# Altium footprint library MICROFOOT4-SPE-Si8469DB.PcbLib: 1 footprints
Each footprint in its own frame and in the unit in brackets; x right, y up, seen from the top. Pads: shape width x height; smd on the part's side, far side on the other; paste and mask are expansions set on the pad; w line width, h text height; cw(c..) or ccw(c..) is an arc to the next point about the centre after c.
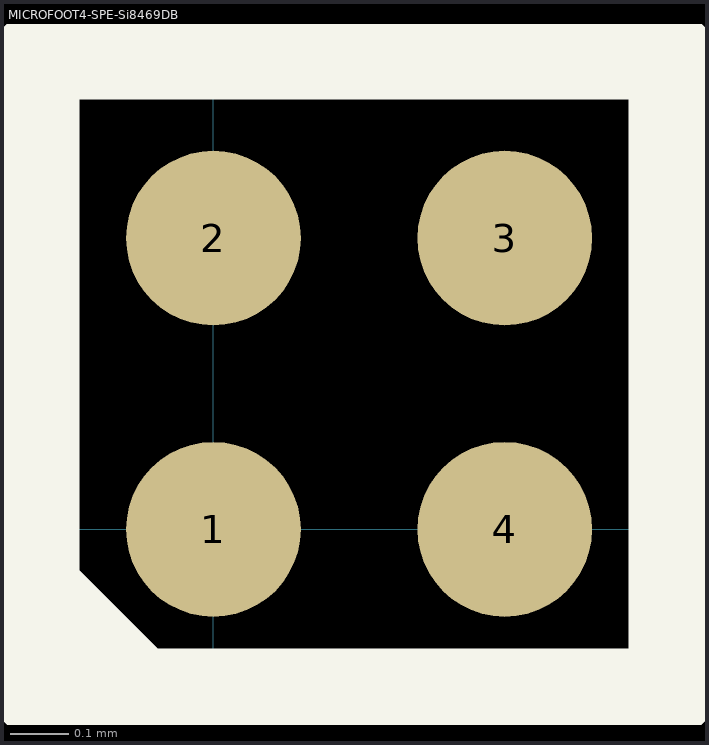
[diagram p0: the footprint, top view; thin cyan lines are the x and y axes]

## MICROFOOT4-SPE-Si8469DB [mm]
pads (4):
  round 0.3 smd paste-0.03 mask-0.025: 1(0,0) 2(0,0.5) 3(0.5,0.5) 4(0.5,0)
Top Overlay:
  lines w0.15: -0.305,-0.102 -0.127,-0.279 ; -0.305,-0.279 0.787,-0.279 0.787,0.813 -0.305,0.813 -0.305,-0.279
3D body: height 0.51, standoff 0.25, extent -0.229,-0.229 0.737,0.737